# EAGLE library part MCP73833-FCI/UN (library MCP73833-FCI_UN)
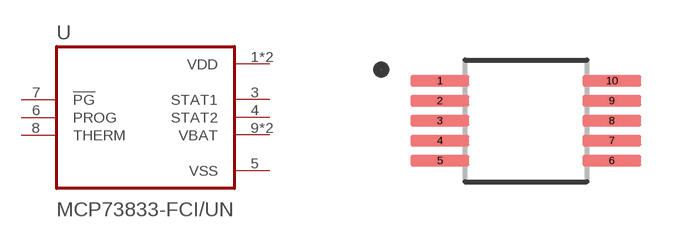
[diagram p0: symbol with the pads of SOP50P490X110-10N; footprint SOP50P490X110-10N]

Designator prefix U

## MCP73833-FCI/UN  [SOP50P490X110-10N]
1  VDD  pwr
2  VDD  pwr
3  STAT1  out
4  STAT2  out
5  VSS  pwr
6  PROG  in
7  !PG  in
8  THERM  in
9  VBAT  out
10  VBAT  out

## Footprint SOP50P490X110-10N (pad centres in mm)
smd 1.47 x 0.28: 1 -2.15,1; 2 -2.15,0.5; 3 -2.15,0; 4 -2.15,-0.5; 5 -2.15,-1; 6 2.15,-1; 7 2.15,-0.5; 8 2.15,0; 9 2.15,0.5; 10 2.15,1